# Altium integrated library LP5907MFX-2P9NOPB.IntLib: 1 symbol
Pins are listed as number, name and electrical type; pins without a type are passive.

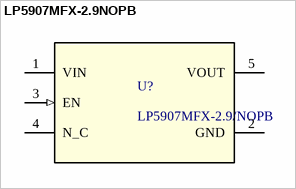
[diagram p0: symbol LP5907MFX-2.9NOPB]

## LP5907MFX-2.9NOPB
designator U?, comment LP5907MFX-2.9/NOPB
250-mA, low-noise, high-PSRR, ultra-low-dropout voltage regulator with low IQ and enable 5-SOT-23 -40 to 125; Manufacturer_Name: Texas Instruments; TYPE: TYPE; RefDes: RefDes; Copyright: Copyright (C) 2026 Ultra Librarian. All rights reserved.; Manufacturer_Part_Number: LP5907MFX-2.9/NOPB
footprint DBV0005A_N
pins: 1 VIN (power), 2 GND (power), 3 EN (in), 4 N_C, 5 VOUT (power)